# Altium footprint library ExtractedFootprints.PcbLib: 41 footprints (part 1 of 3)
Each footprint in its own frame and in the unit in brackets; x right, y up, seen from the top. Pads: shape width x height; smd on the part's side, far side on the other; paste and mask are expansions set on the pad; w line width, h text height; cw(c..) or ccw(c..) is an arc to the next point about the centre after c.
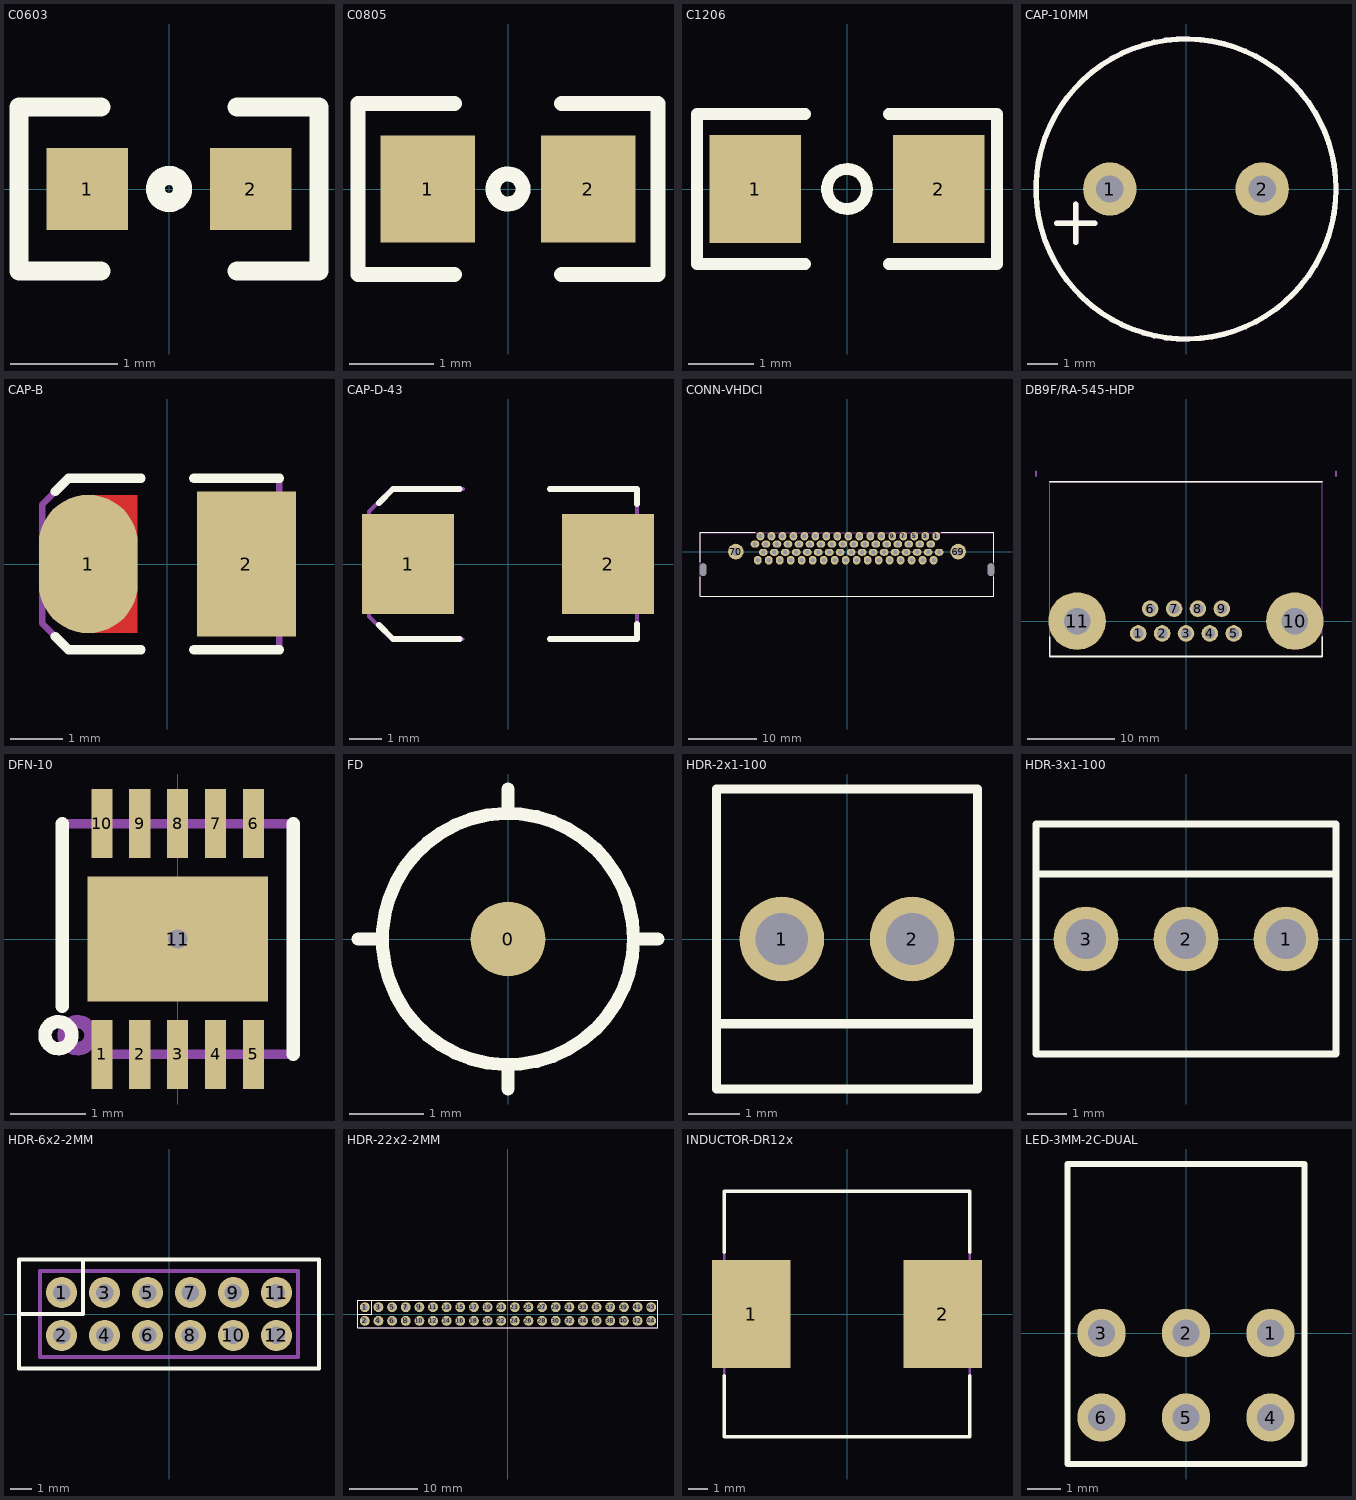
[diagram p0: the footprints below, top view; thin cyan lines are the x and y axes]

## C0603 [mil]
height 30
pads (2):
  rect 30x30 smd mask+2: 1(-30,0) 2(30,0)
Top Overlay:
  circle w7: c0,0 r5
  lines w7: -25,-30 -55,-30 -55,30 -25,30 ; 25,-30 55,-30 55,30 25,30
Mechanical 2:
  lines w5: -25,-30 -55,-30 -55,30 -25,30 ; 25,-30 55,-30 55,30 25,30
3D body: height 24, standoff 0, extent -30,-15 30,15

## C0805 [mil]
height 50
pads (2):
  rect 44x50 smd mask+2: 1(-37.5,0) 2(37.5,0)
Top Overlay:
  circle w7: c0,0 r7
  lines w7: -25,-40 -70,-40 -70,40 -25,40 ; 25,-40 70,-40 70,40 25,40
Mechanical 2:
  lines w5: -25,-40 -70,-40 -70,40 -25,40 ; 25,-40 70,-40 70,40 25,40
3D body: height 40, standoff 0, extent -40,-25 40,25

## C1206 [mil]
height 60
pads (2):
  rect 55x65 smd mask+2: 1(-55,0) 2(55,0)
Top Overlay:
  circle w7: c0,0 r12
  lines w7: -25,-45 -90,-45 -90,45 -25,45 ; 25,-45 90,-45 90,45 25,45
Mechanical 2:
  lines w5: -25,-45 -90,-45 -90,45 -25,45 ; 25,-45 90,-45 90,45 25,45
3D body: height 54, standoff 0, extent -69,-32 69,32

## CAP-10MM [mil]
height 550
pads (2):
  round 70 / inner round 60 / far side round 60 hole 36: 1(-100,0) 2(100,0)
Top Overlay:
  circle w7: c0,0 r197
  lines w7: -170,-45 -120,-45 ; -145,-70 -145,-20
Bottom Overlay:
  lines w7: -170,-45 -120,-45 ; -145,-70 -145,-20
Mechanical 2:
  circle w7: c0,0 r197
  lines w7: -170,-45 -120,-45 ; -145,-70 -145,-20

## CAP-B [mil]
height 83
pads (2):
  oval 75x105 smd mask+2: 1(-60,0)
  rect 75x110 smd mask+2: 2(60,0)
Top Layer:
  region: -22.5,52.5 -60,52.5 -60,-52.5 -22.5,-52.5
Top Overlay:
  lines w7: -85,-55 -75,-65 -20,-65 ; -85,55 -75,65 -20,65 ; 20,-65 85,-65 ; 20,65 85,65
Top Solder:
  region: -20.5,54.5 -60,54.5 -60,-54.5 -20.5,-54.5
Mechanical 2:
  lines w5: -20,-65 -75,-65 -95,-45 -95,45 -75,65 -20,65 ; 20,-65 85,-65 85,65 20,65
3D body: height 86.61, standoff 0, extent -71.65,-59.05 71.66,59.06

## CAP-D-43 [mil]
height 170
pads (2):
  rect 110x120 smd mask+2: 1(-120,0) 2(120,0)
Top Overlay:
  lines w7: -155,-73 -138,-90 -58,-90 ; -155,73 -138,90 -58,90 ; 50,-90 155,-90 155,-72 ; 50,90 155,90 155,72
Mechanical 2:
  lines w5: -55,-90 -140,-90 -167,-63 -167,63 -140,90 -54,90 ; 50,-90 155,-90 155,90 50,90
3D body: height 173.23, standoff 0, extent -148.42,-90.55 148.43,90.55

## CONN-VHDCI [mil]
height 157.48
pads (72):
  oval 44x50 hole 26: 1(511.81,88.58) 3(448.82,88.58) 5(385.83,88.58) 7(322.83,88.58) 9(259.84,88.58) 11(196.85,88.58) 13(133.86,88.58) 15(70.87,88.58) 17(7.87,88.58) 19(-55.12,88.58) 21(-118.11,88.58) 23(-181.1,88.58) 25(-244.09,88.58) 27(-307.09,88.58) 29(-370.08,88.58) 31(-433.07,88.58) 33(-496.06,88.58) 36(496.06,-49.21) 38(433.07,-49.21) 40(370.08,-49.21) 42(307.09,-49.21) 44(244.09,-49.21) 46(181.1,-49.21) 48(118.11,-49.21) 50(55.12,-49.21) 52(-7.87,-49.21) 54(-70.87,-49.21) 56(-133.86,-49.21) 58(-196.85,-49.21) 60(-259.84,-49.21) 62(-322.83,-49.21) 64(-385.83,-49.21) 66(-448.82,-49.21) 68(-511.81,-49.21)
  oval 50x40 hole 26: 2(480.31,43.31) 4(417.32,43.31) 6(354.33,43.31) 8(291.34,43.31) 10(228.35,43.31) 12(165.35,43.31) 14(102.36,43.31) 16(39.37,43.31) 18(-23.62,43.31) 20(-86.61,43.31) 22(-149.61,43.31) 24(-212.6,43.31) 26(-275.59,43.31) 28(-338.58,43.31) 30(-401.57,43.31) 32(-464.57,43.31) 34(-527.56,43.31) 35(527.56,-3.94) 37(464.57,-3.94) 39(401.57,-3.94) 41(338.58,-3.94) 43(275.59,-3.94) 45(212.6,-3.94) 47(149.61,-3.94) 49(86.61,-3.94) 51(23.62,-3.94) 53(-39.37,-3.94) 55(-102.36,-3.94) 57(-165.35,-3.94) 59(-228.35,-3.94) 61(-291.34,-3.94) 63(-354.33,-3.94) 65(-417.32,-3.94) 67(-480.31,-3.94)
  round 90 / inner round 60 / far side round 60 hole 48: 69(637,0) 70(-637,0)
  oval 35x70 hole 36 slot 70 at 90 deg unplated: 71(824.8,-103.54) 72(-824.8,-103.54)
Top Overlay:
  lines w7: -840,-145 -840,-255 840,-255 840,-145 ; -840,-60 -840,110 -525,110 ; 540,110 840,110 840,-60
Bottom Overlay:
  lines w7: -555,-5 -525,-5 ; -540,-15 -525,-5 ; -540,5 -525,-5 ; 553.54,-52.68 550,-35 ; 567.68,-38.54 550,-35 ; 580,-65 550,-35
  text "60" at -275,-145 h32
  text "50" at 35,-145 h32
  text "40" at 355,-145 h32
  text "67" at -630,-85 h32
  text "35" at 570,-85 h32
  text "2" at 570,140 h32
  text "36" at 480,-145 h32
  text "1" at 510,165 h32
  text "33" at -520,155 h28
  text "68" at -540,-95 h32
Mechanical 2:
  lines w5: -840.55,-255.91 840.55,-255.91 840.55,108.27 -840.55,108.27 -840.55,-255.91

## DB9F/RA-545-HDP [mil] "Amp P/N:5205866-1"
pads (11):
  round 75 / inner round 60 / far side round 60 hole 48: 1(-216,-56) 2(-108,-56) 3(0,-56) 4(108,-56) 5(216,-56) 6(-162,56) 7(-54,56) 8(54,56) 9(162,56)
  round 260 / inner round 60 / far side round 60 hole 120: 10(492,0) 11(-492,0)
Top Overlay:
  lines w7: -615,-70 -615,-160 615,-160 615,-70 ; -615,630 615,630
Bottom Overlay:
  text "5" at 295,-70 h32
  text "9" at 245,40 h32
  text "6" at -220,40 h32
  text "1" at -280,-75 h32
Mechanical 2:
  lines w5: -615,-160 -615,630 615,630 615,-160 -615,-160
  lines w8: -678,656 -678,676 ; 678,656 678,676

## DFN-10 [mil]
height 32
pads (11):
  rect 11x36 smd mask+1: 1(-39.37,-60) 2(-19.68,-60) 3(0,-60) 4(19.68,-60) 5(39.37,-60) 6(39.37,60) 7(19.68,60) 8(0,60) 9(-19.68,60) 10(-39.37,60)
  rect 94x65 / inner round 60 / far side round 60 hole 10 mask+2: 11(0,0)
Top Overlay:
  circle w7: c-62,-50 r7
  lines w7: -60,-35 -60,60 ; 60,-60 60,60
Mechanical 2:
  circle w7: c-52,-50 r7
  lines w5: -60,-35 -60,60 60,60 60,-60 -40,-60
3D body: height 31.5, standoff 0, extent -61.02,-61.41 61.03,61.42

## FD [mil]
height 157.48
pads (1):
  round 40 smd paste-25: 0(0,0)
Top Overlay:
  circle w7: c0,0 r67
  lines w7: -80,0 -67,0 ; 0,-80 0,-67 ; 0,67 0,80 ; 67,0 80,0
Top Solder:
  circle w50: c0,0 r35

## HDR-2x1-100 [mil] "AMP 0.100"
height 250
pads (2):
  round 65 / inner round 60 / far side round 60 hole 40: 1(-50,0) 2(50,0)
Top Overlay:
  lines w7: -100,-65 100,-65 ; -100,-115 100,-115 100,115 -100,115 -100,-115
Bottom Overlay:
  circle w7: c-50,0 r50
Mechanical 2:
  lines w5: -100,-65 100,-65 ; -100,-115 -100,115 100,115 100,-115 -100,-115

## HDR-3x1-100 [mil] "AMP 0.100"
height 250
pads (3):
  round 65 / inner round 60 / far side round 60 hole 40: 1(100,0) 2(0,0) 3(-100,0)
Top Overlay:
  lines w7: -150,65 150,65 ; -150,-115 150,-115 150,115 -150,115 -150,-115
Bottom Overlay:
  circle w7: c100,0 r50
Mechanical 2:
  lines w5: -150,65 150,65 ; -150,-115 -150,115 150,115 150,-115 -150,-115

## HDR-6x2-2MM [mil]
height 157.48
pads (12):
  round 57 / inner round 60 / far side round 60 hole 32: 1(-196.85,39.37) 2(-196.85,-39.37) 3(-118.11,39.37) 4(-118.11,-39.37) 5(-39.37,39.37) 6(-39.37,-39.37) 7(39.37,39.37) 8(39.37,-39.37) 9(118.11,39.37) 10(118.11,-39.37) 11(196.85,39.37) 12(196.85,-39.37)
Top Overlay:
  lines w7: -275,0 -157.48,0 -157.48,100 ; -275,-100 -275,100 275,100 275,-100 -275,-100
Bottom Overlay:
  circle w7: c-196.85,39.37 r39.37
  lines w7: -78.74,70 -78.74,39.37 ccw(c-39.37,39.37) 0,39.37 0,70 ; 78.74,-70 78.74,-39.37 cw(c118.11,-39.37) 157.48,-39.37 157.48,-70
Mechanical 2:
  lines w7: -236.22,-78.74 236.22,-78.74 236.22,78.74 -236.22,78.74 -236.22,-78.74

## HDR-22x2-2MM [mil]
height 157.48
pads (44):
  round 57 / inner round 60 / far side round 60 hole 32: 1(-826.77,39.37) 2(-826.77,-39.37) 3(-748.03,39.37) 4(-748.03,-39.37) 5(-669.29,39.37) 6(-669.29,-39.37) 7(-590.55,39.37) 8(-590.55,-39.37) 9(-511.81,39.37) 10(-511.81,-39.37) 11(-433.07,39.37) 12(-433.07,-39.37) 13(-354.33,39.37) 14(-354.33,-39.37) 15(-275.59,39.37) 16(-275.59,-39.37) 17(-196.85,39.37) 18(-196.85,-39.37) 19(-118.11,39.37) 20(-118.11,-39.37) 21(-39.37,39.37) 22(-39.37,-39.37) 23(39.37,39.37) 24(39.37,-39.37) 25(118.11,39.37) 26(118.11,-39.37) 27(196.85,39.37) 28(196.85,-39.37) 29(275.59,39.37) 30(275.59,-39.37) 31(354.33,39.37) 32(354.33,-39.37) 33(433.07,39.37) 34(433.07,-39.37) 35(511.81,39.37) 36(511.81,-39.37) 37(590.55,39.37) 38(590.55,-39.37) 39(669.29,39.37) 40(669.29,-39.37) 41(748.03,39.37) 42(748.03,-39.37) 43(826.77,39.37) 44(826.77,-39.37)
Top Overlay:
  lines w7: -866.14,0 -787.4,0 -787.4,78.74 ; -866.14,-78.74 -866.14,78.74 866.14,78.74 866.14,-78.74 -866.14,-78.74
Bottom Overlay:
  circle w7: c-826.77,39.37 r39.37
  lines w7: -708.66,70 -708.66,39.37 ccw(c-669.29,39.37) -629.92,39.37 -629.92,70 ; -551.18,-70 -551.18,-39.37 cw(c-511.81,-39.37) -472.44,-39.37 -472.44,-70 ; -314.96,70 -314.96,39.37 ccw(c-275.59,39.37) -236.22,39.37 -236.22,70 ; -157.48,-70 -157.48,-39.37 cw(c-118.11,-39.37) -78.74,-39.37 -78.74,-70 ; 78.74,70 78.74,39.37 ccw(c118.11,39.37) 157.48,39.37 157.48,70 ; 236.22,-70 236.22,-39.37 cw(c275.59,-39.37) 314.96,-39.37 314.96,-70 ; 472.44,70 472.44,39.37 ccw(c511.81,39.37) 551.18,39.37 551.18,70 ; 629.92,-70 629.92,-39.37 cw(c669.29,-39.37) 708.66,-39.37 708.66,-70
Mechanical 2:
  lines w5: -866.14,-78.74 866.14,-78.74 866.14,78.74 -866.14,78.74 -866.14,-78.74

## INDUCTOR-DR12x [mil]
height 315
pads (2):
  rect 160x220 smd: 1(-195,0) 2(195,0)
Top Overlay:
  lines w7: -250,-125 -250,-250 250,-250 250,-125 ; -250,125 -250,250 250,250 250,125
Mechanical 2:
  lines w5: -250,-250 250,-250 250,250 -250,250 -250,-250

## LED-3MM-2C-DUAL [mil] "Kingbright WP130WCP"
height 550
pads (6):
  round 57 / inner round 60 / far side round 60 hole 32: 1(100,0) 2(0,0) 3(-100,0) 4(100,-100) 5(0,-100) 6(-100,-100)
Top Overlay:
  lines w7: -140,-155 -140,200 140,200 140,-155 -140,-155
Mechanical 2:
  lines w5: -140,-155 140,-155 140,200 -140,200 -140,-155